# EAGLE library part R/2R-8G (library RESISTOR_SIL)
R/2R Ladder 8 Murata RGSD16L
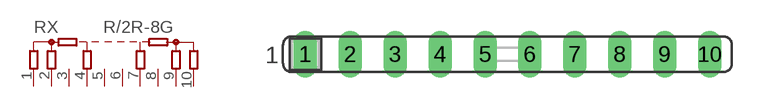
[diagram p44: symbol with the pads of SIL10; footprint SIL10]

Designator prefix RX

## R/2R-8G  [SIL10]
1  IN  pas
2  B8  pas
3  B7  pas
4  B6  pas
5  B5  pas
6  B4  pas
7  B3  pas
8  B2  pas
9  B1  pas
10  OUT  pas

## Footprint SIL10 (pad centres in mm)
Single In Line
drill 0.813 long: 1 -11.43,0; 2 -8.89,0; 3 -6.35,0; 4 -3.81,0; 5 -1.27,0; 6 1.27,0; 7 3.81,0; 8 6.35,0; 9 8.89,0; 10 11.43,0